# EAGLE library part AVR_JTAG (library m_connector)
ATMEL JTAG Interface Header 10 pin JTAG header as described in AVR® JTAG ICE User Guide.
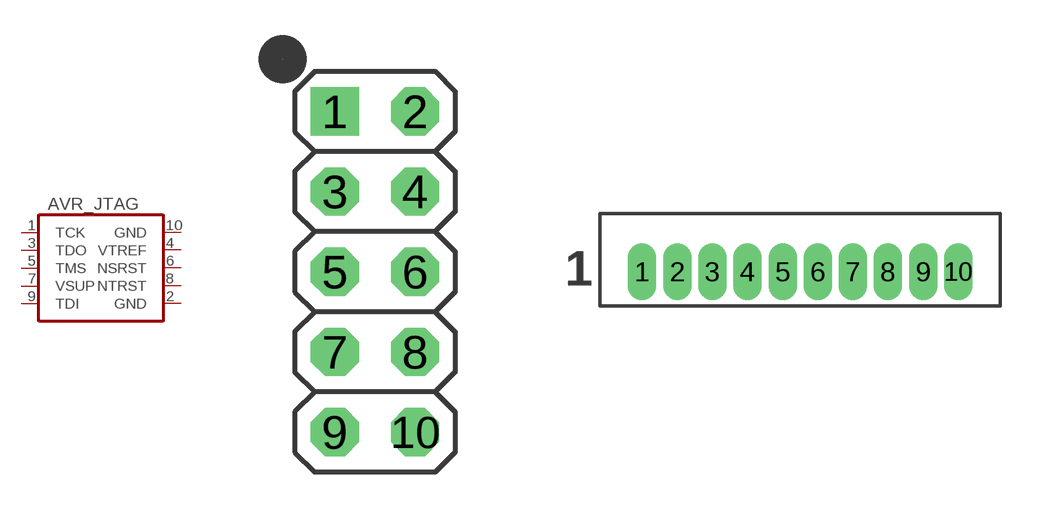
[diagram p3: symbol with the pads of 2X10; footprints 2X10, MOLEX_53047-1010]

Designator prefix JTAG

## AVR_JTAG0.1"2X10  [2X10]
1  TCK
2  GND  pwr
3  TDO
4  VTREF  pwr
5  TMS
6  NSRST
7  VSUP  pas
8  NTRST  pas
9  TDI
10  GND  pwr

## AVR_JTAGPICOBLADE  [MOLEX_53047-1010]
Pads as for 2X10

## Footprint 2X10 (pad centres in mm)
10 pin header, dual row
drill 1.016 square: 1 -1.27,5.08
drill 1.016 octagon: 2 1.27,5.08; 3 -1.27,2.54; 4 1.27,2.54; 5 -1.27,0; 6 1.27,0; 7 -1.27,-2.54; 8 1.27,-2.54; 9 -1.27,-5.08; 10 1.27,-5.08

## Footprint MOLEX_53047-1010 (pad centres in mm)
Molex 53047 Series, 1.25mm Pitch, 10 Conductor Molex 1.25mm pitch through hole connector. Pre tinned phosphor bronze pins, mates with 51021 series.
drill 0.5 long: 1 -5.625,0; 2 -4.375,0; 3 -3.125,0; 4 -1.875,0; 5 -0.625,0; 6 0.625,0; 7 1.875,0; 8 3.125,0; 9 4.375,0; 10 5.625,0